# Altium schematic symbol library WateringSystem_lib.SchLib: 28 symbols
Pins are listed as number, name and electrical type; pins without a type are passive.

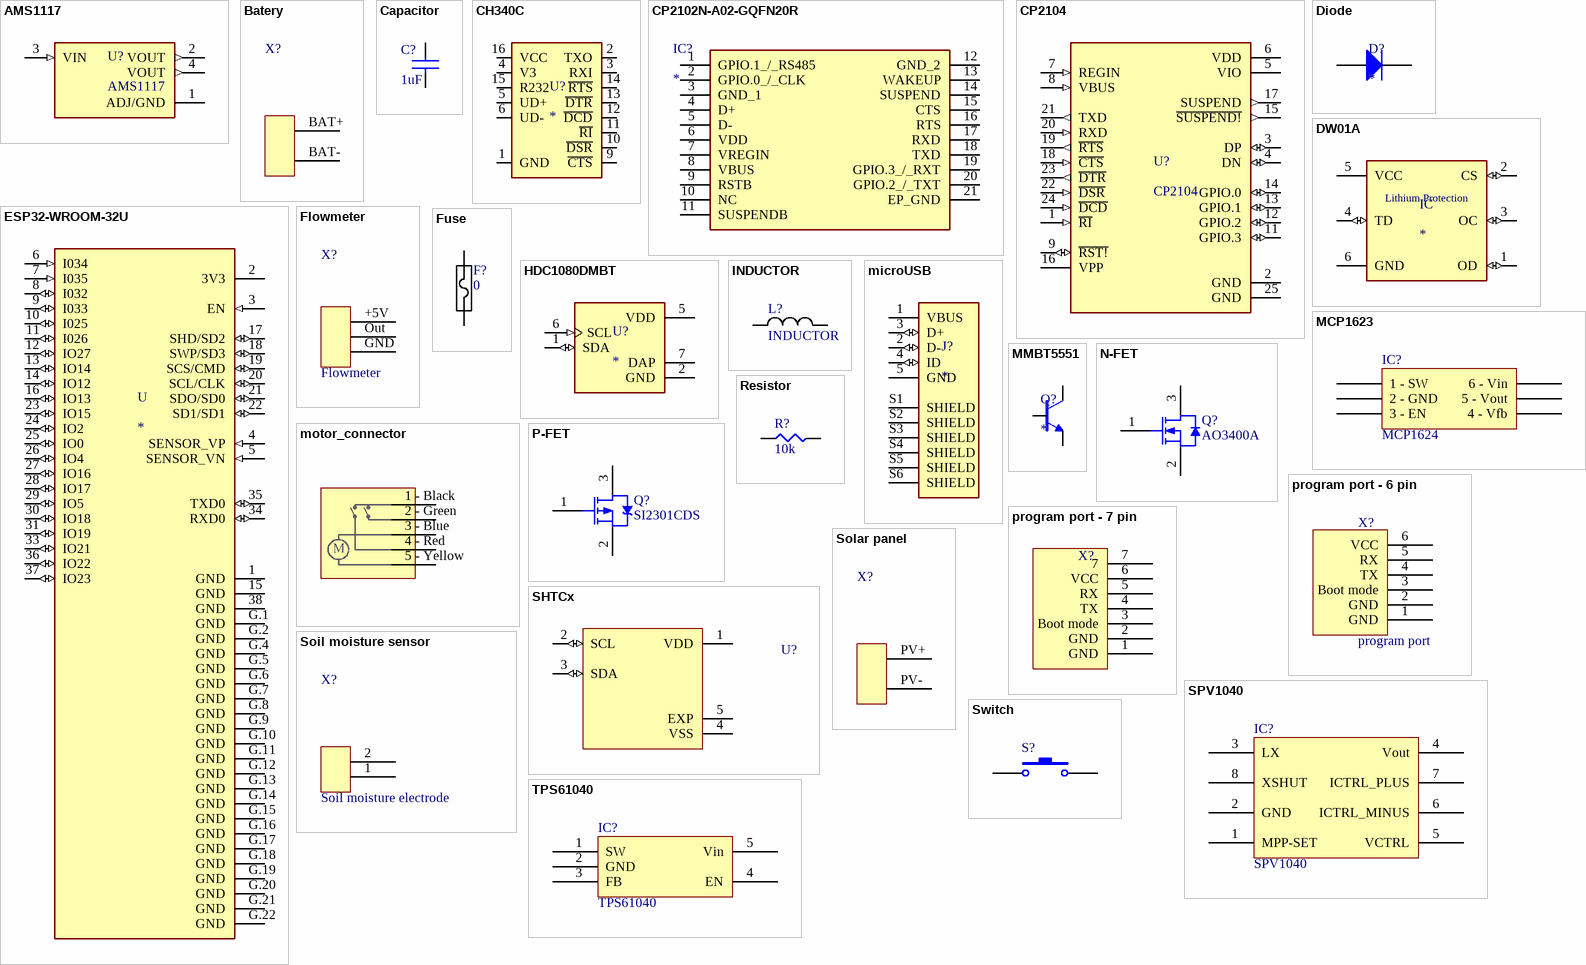
[diagram p0: symbols AMS1117 to TPS61040]

## AMS1117
designator U?
UNO PLUS Arduino R3 Shield, Xbee Arduino IDE Wheeled Robotics Kit; MF: Seeed Technology; Availability: Unavailable; SnapEDA_Link: https://www.snapeda.com/parts/AMS1117/Seeed%20Technology%20Co.%2C%20Ltd/view-part/184428/?ref=snap; MP: AMS1117; Price: None; Value: *; Package: SOT-223 Seeed Technology; LCSC Part #: *
footprint SOT229P700X180-4N
pins: 1 ADJ/GND (power), 2 VOUT (out), 3 VIN (in), 4 VOUT (out)

## Batery
designator X?
footprint Battery connector
pins: BAT+ 2, BAT- 1

## Capacitor
designator C?, comment 1uF
Value: 1uF; Part Number: *; LCSC Part #: *; Package: *
footprint CAPC160X80X90L35N (Capacitor, Chip;  0603, 1.60 mm L X 0.80 mm W X 0.90 mm H body)
footprint CAPC200X125X110L50N (Capacitor, Chip; 0805; 2.00 mm L X 1.25 mm W X 1.10 mm H body)
footprint CAPC320X160X50L40N (Capacitor, Chip; 1206; 3.20 mm L X 1.60 mm W X 0.50 mm H body)
footprint CAPC450X320X110L60N (Capacitor, Chip; 4.50 mm L X 3.20 mm W X 1.10 mm H body)
pins: 1, 2

## CH340C
designator U?
USB to serial chip CH340; MF: WCH; MP: CH340C; Package: Package; Check_prices: https://www.snapeda.com/parts/CH340C/WCH/view-part/5428851/?ref=eda; Value: *; Price: None; Availability: Unavailable; SnapEDA_Link: https://www.snapeda.com/parts/CH340C/WCH/view-part/5428851/?ref=snap; LCSC Part #: *
footprint SO016
pins: 1 GND (io), 2 TXO (io), 3 RXI (io), 4 V3 (io), 5 UD+ (io), 6 UD- (io), 9 ~{CTS} (io), 10 ~{DSR} (io), 11 ~{RI} (io), 12 ~{DCD} (io), 13 ~{DTR} (io), 14 ~{RTS} (io), 15 R232 (io), 16 VCC (io)

## CP2102N-A02-GQFN20R
designator IC?
Integrated Circuit; Manufacturer_Name: Silicon Labs; Manufacturer_Part_Number: CP2102N-A02-GQFN20R; Description: Full Speed USB to UART Bridge USB 2.0 3.3V T/R Automotive 20-Pin QFN EP; Datasheet Link: https://componentsearchengine.com//CP2102N-A02-GQFN20R.pdf; Height: 0.8mm; Mouser2 Part Number: 634-CP2102NA02QFN20R; Mouser2 Price/Stock: https://www.mouser.com/Search/Refine.aspx?Keyword=634-CP2102NA02QFN20R
footprint CP2102NA02GQFN20
pins: 1 GPIO.1_/_RS485, 2 GPIO.0_/_CLK, 3 GND_1, 4 D+, 5 D-, 6 VDD, 7 VREGIN, 8 VBUS, 9 RSTB, 10 NC, 11 SUSPENDB, 12 GND_2, 13 WAKEUP, 14 SUSPEND, 15 CTS, 16 RTS, 17 RXD, 18 TXD, 19 GPIO.3_/_RXT, 20 GPIO.2_/_TXT, 21 EP_GND

## CP2104
designator U?
USB Bridge, USB to UART USB 2.0 UART Interface 24-QFN _4x4_; MF: Silicon Labs; Price: None; Availability: Unavailable; SnapEDA_Link: https://www.snapeda.com/parts/CP2104/Silicon%20Labs/view-part/135877/?ref=snap; MP: CP2104; Value: *; Package: QFN-24 Silicon Labs; LCSC Part #: *
footprint QFN50P400X400X80-25N
pins: 1 ~{RI} (in), 2 GND (power), 3 DP (io), 4 DN (io), 5 VIO (power), 6 VDD (power), 7 REGIN (in), 8 VBUS (in), 9 ~{RST!} (io), 11 GPIO.3 (io), 12 GPIO.2 (io), 13 GPIO.1 (io), 14 GPIO.0 (io), 15 ~{SUSPEND!} (out), 16 VPP, 17 SUSPEND (out), 18 ~{CTS} (in), 19 ~{RTS} (out), 20 RXD (in), 21 TXD (out), 22 ~{DSR} (in), 23 ~{DTR} (out), 24 ~{DCD} (in), 25 GND (power)

## Diode
designator D?
Part Number: *; LCSC Part #: *
footprint SODFL350X110-2N (SODFL, 2-Leads, Body 1.70x3.50mm, IPC Medium Density)
pins: A, C

## DW01A
designator IC
Pushbutton Switch SPST-NC Standard Panel Mount, Front; MF: Fortune Semiconductor; MP: DW01A; Price: None; Availability: Unavailable; Package: Package Analog Devices; SnapEDA_Link: https://www.snapeda.com/parts/DW01A/Fortune%20Semiconductor/view-part/4388554/?ref=snap; Value: *
footprint CFP6P95_290X280X145L45X40N (Ceramic Flat Pack (CFP), 0.95 mm pitch; 6 pin, 2.90 mm L X 1.60 mm W X 1.45 mm H body)
pins: 1 OD (io), 2 CS (io), 3 OC (io), 4 TD (io), 5 VCC (power), 6 GND (power)
text: Lithium Protection

## ESP32-WROOM-32U
designator U
Bluetooth, WiFi 802.11b/g/n, Bluetooth v4.2 +EDR, Class 1, 2 and 3 Transceiver Module 2.4GHz ~ 2.5GHz Antenna Not Included, U.FL Surface Mount; MF: Espressif Systems; MP: ESP32-WROOM-32U; Value: *; SnapEDA_Link: https://www.snapeda.com/parts/ESP32-WROOM-32U/Espressif%20Systems/view-part/2472476/?ref=snap; Availability: Unavailable; Price: None; DigiKey-Purchase-URL: https://snapeda.com/shop?store=DigiKey&id=2472476; Package: Module Espressif Systems; LCSC Part #: *
footprint ESP32-WROOM-32U
pins: 1 GND (power), 2 3V3 (power), 3 EN (in), 4 SENSOR_VP (in), 5 SENSOR_VN (in), 6 I034 (in), 7 I035 (in), 8 I032 (io), 9 I033 (io), 10 I025 (io), 11 I026 (io), 12 IO27 (io), 13 IO14 (io), 14 IO12 (io), 15 GND (power), 16 IO13 (io), 17 SHD/SD2 (io), 18 SWP/SD3 (io), 19 SCS/CMD (io), 20 SCL/CLK (io), 21 SDO/SD0 (io), 22 SD1/SD1 (io), 23 IO15 (io), 24 IO2 (io), 25 IO0 (io), 26 IO4 (io), 27 IO16 (io), 28 IO17 (io), 29 IO5 (io), 30 IO18 (io), 31 IO19 (io), 33 IO21 (io), 34 RXD0 (io), 35 TXD0 (io), 36 IO22 (io), 37 IO23 (io), 38 GND (power), G.1 GND (power), G.2 GND (power), G.4 GND (power), G.5 GND (power), G.6 GND (power), G.7 GND (power), G.8 GND (power), G.9 GND (power), G.10 GND (power), G.11 GND (power), G.12 GND (power), G.13 GND (power), G.14 GND (power), G.15 GND (power), G.16 GND (power), G.17 GND (power), G.18 GND (power), G.19 GND (power), G.20 GND (power), G.21 GND (power), G.22 GND (power)

## Flowmeter
designator X?
footprint Flowmeter
pins: +5V 3, GND 1, Out 2

## Fuse
designator F?, comment 0
Alternative: 0
footprint FUSC160X80X95L36N (Fuse, Chip; 1.60 mm L X 0.80 mm W X 0.95 mm H body)
footprint FUSC320X160X50L40N (Fuse, Chip; 3.20 mm L X 1.60 mm W X 0.50 mm H body)
footprint FUSC210X127X110L30N (Fuse, Chip; 2.10 mm L X 1.27 mm W X 1.10 mm H body)
pins: 1, 2

## HDC1080DMBT
designator U?
Humidity Temperature Sensor 0 ~ 100% RH IÂ²C Â±2% RH 15s Surface Mount; MF: Texas Instruments; MP: HDC1080DMBT; Package: WDFN-6 Texas Instruments; Value: *; Price: None; Availability: Unavailable; SnapEDA_Link: https://www.snapeda.com/parts/HDC1080DMBT/Texas%20Instruments/view-part/472820/?ref=snap
footprint SON100P300X300X80-7N
pins: 1 SDA (io), 2 GND (power), 5 VDD (power), 6 SCL (in), 7 DAP (power)

## INDUCTOR
designator L?
Value: 10uH; LCSC Part #: C139506
footprint INDM730X660X300L160X290N (Inductor, Molded Body; 7.20 mm L X 6.60 mm W X 3.00 mm H body)
footprint INDM2520X190N
footprint Inductor 6x6mm
footprint INDM320X250X240L55X190N (Inductor, Molded Body; 2.10 mm L X 2.50 mm W X 2.40 mm H body)
pins: 1, 2

## MCP1623
designator IC?, comment MCP1624
Part Number: MCP1624
footprint CFP6P95_290X280X145L45X40N (Ceramic Flat Pack (CFP), SOT23-6, 0.95 mm pitch; 6 pin, 2.90 mm L X 1.60 mm W X 1.45 mm H body)
pins: 1 1 - SW, 2 2 - GND, 3 3 - EN, 4 4 - Vfb, 5 5 - Vout, 6 6 - Vin

## microUSB
designator J?
Micro USB; MF: Shouhan; MP: MICROXNJ; Check_prices: https://www.snapeda.com/parts/MICROXNJ/Shouhan/view-part/5703693/?ref=eda; Price: None; SnapEDA_Link: https://www.snapeda.com/parts/MICROXNJ/Shouhan/view-part/5703693/?ref=snap; Availability: Unavailable; Package: Package; Value: *; LCSC Part #: *
footprint SHOUHAN_MICROXNJ
pins: 1 VBUS (power), 2 D- (io), 3 D+ (io), 4 ID (io), 5 GND (power), S1 SHIELD, S2 SHIELD, S3 SHIELD, S4 SHIELD, S5 SHIELD, S6 SHIELD

## MMBT5551
designator Q?
Bipolar _BJT_ Transistor NPN 160V 600mA 225mW Surface Mount SOT-23-3 _TO-236_; MP: MMBT5551; MF: ON Semiconductor; Price: None; SnapEDA_Link: https://www.snapeda.com/parts/MMBT5551/ON%20Semiconductor/view-part/2760073/?ref=snap; Availability: Unavailable; Value: *; Package: SOT-23-3 MCC; LCSC Part #: *
footprint SOT23-3P95_240X114L20X40N (Small Outline Transistor (SOT23), 0.95 mm pitch; 3 pin, 2.90 mm L X 1.30 mm W X 1.14 mm H body)
pins: 1 B, 2 E, 3 C

## motor_connector
designator X?
footprint motor_connector
pins: 1 - Black 1, 2 - Green 2, 3 - Blue 3, 4 - Red 4, 5 - Yellow 5
text: M

## N-FET
designator Q?, comment AO3400A
N-FET; Alternatives: BSS806N, IRLML6244, IRLML6344; Part Number: AO3400A
footprint SOT23-3P95_240X114L20X40N (Small Outline Transistor (SOT23), 0.95 mm pitch; 3 pin, 2.90 mm L X 1.30 mm W X 1.14 mm H body)
pins: 1 GATE, 2 SOURCE, 3 DRAIN

## P-FET
designator Q?, comment SI2301CDS
P-FET; Alternatives: IRLML2244, IRLML2246, IRLML6401; Part Number: SI2301CDS
footprint SOT23-3P95_240X114L20X40N (Small Outline Transistor (SOT23), 0.95 mm pitch; 3 pin, 2.90 mm L X 1.30 mm W X 1.14 mm H body)
pins: 1 G, 2 S, 3 D

## program port - 6 pin
designator X?, comment program port
LCSC Part #: C239366
footprint A2543WV-6P (program port for ESP)
pins: 1 GND, 2 GND, 3 Boot mode, 4 TX, 5 RX, 6 VCC

## program port - 7 pin
designator X?, comment program port  (value not drawn)
LCSC Part #: C239367
footprint A2543WV-7P
pins: 1 GND, 2 GND, 3 Boot mode, 4 TX, 5 RX, 6 VCC, 7

## Resistor
designator R?, comment 10k
Value: 10k; Part Number: *; LCSC Part #: *; Package: *
footprint RESC160X80X90L30N (Resistor, Chip; 0603; 1.60 mm L X 0.80 mm W X 0.90 mm H body)
footprint RESC200X125X70L40N (Resistor, Chip; 0805; 2.00 mm L X 1.25 mm W X 0.70 mm H body)
footprint RESC310X152X65L45N (Resistor, 1206; Chip; 3.10 mm L X 1.525 mm W X 0.65 mm H body)
pins: 1, 2

## SHTCx
designator U?
LCSC Part #: *
footprint SHTCx (SENSOR HUMI/TEMP 1.62V-3.6V I2C 2% SMD)
pins: 1 VDD (power), 2 SCL (io), 3 SDA (io), 4 VSS (power), 5 EXP

## Soil moisture sensor
designator X?, comment Soil moisture electrode
footprint Soil moisture sensor
footprint Soil moisture sensor - long
pins: 1, 2

## Solar panel
designator X?
footprint Solar Panel connenctor
pins: PV+ 2, PV- 1

## SPV1040
designator IC?
Part Number: SPV1040
footprint SPV1040
pins: 1 MPP-SET, 2 GND, 3 LX, 4 Vout, 5 VCTRL, 6 ICTRL_MINUS, 7 ICTRL_PLUS, 8 XSHUT

## Switch
designator S?
Switch; Published: 24-Mar-1999; LatestRevisionDate: 17-Jul-2002; LatestRevisionNote: Re-released for DXP Platform.; PackageReference: SPST-2; Publisher: Altium Limited; PackageDescription: Switch; 2 Leads
footprint Tactile switch
footprint SKRKAEE020
pins: 1, 2

## TPS61040
designator IC?
Part Number: TPS61040
footprint SOT23-5 (SOT23, 5-Leads, Body 3.05x1.75mm, Pitch 0.95mm, IPC Low Density)
pins: 1 SW, 2 GND, 3 FB, 4 EN, 5 Vin